# Altium integrated library TI Microcontroller MSP430 16-bit Ultra-Low Power.IntLib: 1463 symbols (part 52 of 130)
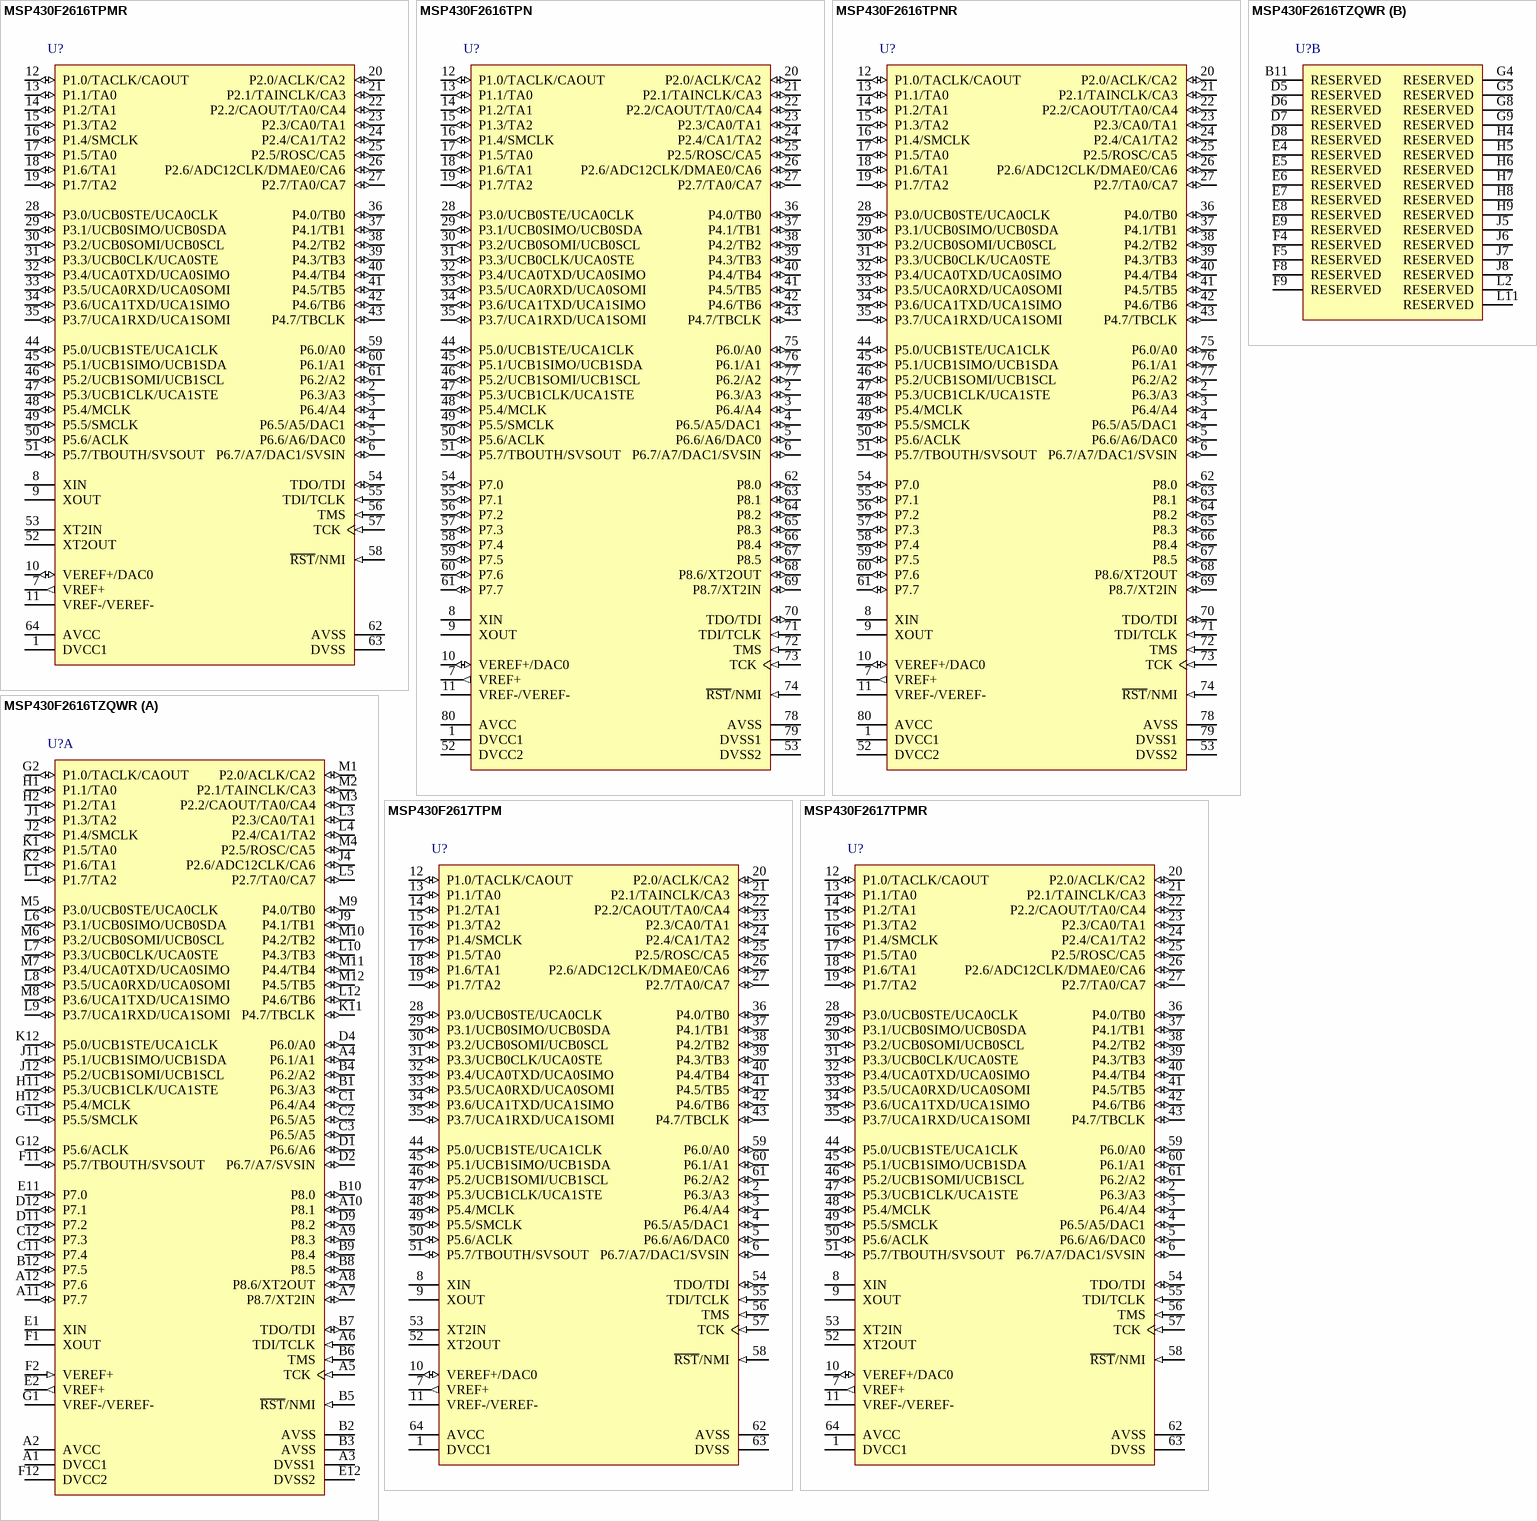
[diagram p362: symbols MSP430F2616TPMR to MSP430F2617TPMR]

## MSP430F2616TZQWR
designator U?
16 MHz Mixed Signal Microcontroller with 92 KB Flash, 4096 B SRAM and 48 GPIOs, -40 to 105 degC, 113-pin BGA (ZQW), Green (RoHS & no Sb/Br); Manufacturer: Texas Instruments; PartNumber: MSP430F2616TZQWR; ADC: 12-bit SAR; ADC Channels: 8; Brown Out Reset: Yes; DMA: 3; Flash(KB): 92; Frequency(MHz): 16; GPIO: 48; Multiplier: 16x16; SRAM(B): 4096; SubFamily: 2 Series, Extended Temp; Timers - 16-bit: 2; DatasheetVersion: SLAS541K; PackageVersion: 4204599-3/D; PackageReference: ZQW113; PackageDescription: 113-Pin Plastic Ball Grid Array Package, Body 7 x 7 mm, Pitch 0.5 mm; Supplier 1: Digi-Key; Supplier Part Number 1: 296-22694-2-ND; Supplier 2: Digi-Key; Supplier Part Number 2: 296-22694-1-ND; Supplier 3: Mouser; Supplier Part Number 3: 595-MSP430F2616TPNR; Comparators: Yes; Eco-Plan: Green (RoHS & no Sb/Br); SVS: Yes; Temp Sensor: Yes; USCI_A (UART/LIN/IrDA/SPI): 2; USCI_B (I2C & SPI): 2; Watchdog: Yes; Mounting Technology: Surface Mount; Code_JEDEC: MO-225; ComponentLink1Description: Manufacturer URL; ComponentLink1URL: http://www.ti.com/; ComponentLink2Description: Datasheet; ComponentLink2URL: http://www.ti.com/general/docs/lit/getliterature.tsp?genericPartNumber=MSP430F2616&fileType=pdf; ComponentLink3Description: Package Specification; ComponentLink3URL: http://www.ti.com/lit/ml/mpbg674/mpbg674.pdf
footprint TI-ZQW113 (BGA, 113-Balls, Body 7x7mm, Pitch 0.5mm)
part A pins: A1 DVCC1 (power) "Digital supply voltage, positive terminal. Supplies all digital parts.", A2 AVCC (power) "Analog supply voltage, positive terminal. Supplies only the analog portion of ADC12 and DAC12.", A3 DVSS1 (power) "Digital supply voltage, negative terminal. Supplies all digital parts.", A4 P6.1/A1 (io), A5 TCK (in) "Test clock (JTAG). TCK is the clock input port for device programming test and bootstrap loader start", A6 TDI/TCLK (in), A7 P8.7/XT2IN (io), A8 P8.6/XT2OUT (io), A9 P8.3 (io) "General-purpose digital I/O pin", A10 P8.1 (io) "General-purpose digital I/O pin", A11 P7.7 (io) "General-purpose digital I/O pin", A12 P7.6 (io) "General-purpose digital I/O pin", B1 P6.3/A3 (io), B2 AVSS (power) "Analog supply voltage, negative terminal. Supplies only the analog portion of ADC12 and DAC12.", B3 AVSS (power) "Analog supply voltage, negative terminal. Supplies only the analog portion of ADC12 and DAC12.", B4 P6.2/A2 (io), B5 ~{RST}/NMI (in), B6 TMS (in) "Test mode select. TMS is used as an input port for device programming and test.", B7 TDO/TDI (io), B8 P8.5 (io) "General-purpose digital I/O pin", B9 P8.4 (io) "General-purpose digital I/O pin", B10 P8.0 (io) "General-purpose digital I/O pin", B12 P7.5 (io) "General-purpose digital I/O pin", C1 P6.4/A4 (io), C2 P6.5/A5 (io), C3 P6.5/A5 (io), C11 P7.4 (io) "General-purpose digital I/O pin", C12 P7.3 (io) "General-purpose digital I/O pin", D1 P6.6/A6 (io), D2 P6.7/A7/SVSIN (io), D4 P6.0/A0 (io), D9 P8.2 (io) "General-purpose digital I/O pin", D11 P7.2 (io) "General-purpose digital I/O pin", D12 P7.1 (io) "General-purpose digital I/O pin", E1 XIN "Input port for crystal oscillator XT1. Standard or watch crystals can be connected.", E2 VREF+ (out) "Output of positive terminal of the reference voltage in the ADC12", E11 P7.0 (io) "General-purpose digital I/O pin", E12 DVSS2 (power) "Digital supply voltage, negative terminal. Supplies all digital parts.", F1 XOUT "Output port for crystal oscillator XT1. Standard or watch crystals can be connected.", F2 VEREF+ (in) "Input for an external reference voltage.", F11 P5.7/TBOUTH/SVSOUT (io), F12 DVCC2 (power) "Digital supply voltage, positive terminal. Supplies all digital parts.", G1 VREF-/VEREF-, G2 P1.0/TACLK/CAOUT (io), G11 P5.5/SMCLK (io), G12 P5.6/ACLK (io), H1 P1.1/TA0 (io), H2 P1.2/TA1 (io), H11 P5.3/UCB1CLK/UCA1STE (io), H12 P5.4/MCLK (io), J1 P1.3/TA2 (io), J2 P1.4/SMCLK (io), J4 P2.6/ADC12CLK/CA6 (io), J9 P4.1/TB1 (io), J11 P5.1/UCB1SIMO/UCB1SDA (io), J12 P5.2/UCB1SOMI/UCB1SCL (io), K1 P1.5/TA0 (io), K2 P1.6/TA1 (io), K11 P4.7/TBCLK (io), K12 P5.0/UCB1STE/UCA1CLK (io), L1 P1.7/TA2 (io), L3 P2.3/CA0/TA1 (io), L4 P2.4/CA1/TA2 (io), L5 P2.7/TA0/CA7 (io), L6 P3.1/UCB0SIMO/UCB0SDA (io), L7 P3.3/UCB0CLK/UCA0STE (io), L8 P3.5/UCA0RXD/UCA0SOMI (io), L9 P3.7/UCA1RXD/UCA1SOMI (io), L10 P4.3/TB3 (io), L12 P4.6/TB6 (io), M1 P2.0/ACLK/CA2 (io), M2 P2.1/TAINCLK/CA3 (io), M3 P2.2/CAOUT/TA0/CA4 (io), M4 P2.5/ROSC/CA5 (io), M5 P3.0/UCB0STE/UCA0CLK (io), M6 P3.2/UCB0SOMI/UCB0SCL (io), M7 P3.4/UCA0TXD/UCA0SIMO (io), M8 P3.6/UCA1TXD/UCA1SIMO (io), M9 P4.0/TB0 (io), M10 P4.2/TB2 (io), M11 P4.4/TB4 (io), M12 P4.5/TB5 (io)
part B pins: B11 RESERVED "Reserved pin. Connection to DVSS, AVSS recommended.", D5 RESERVED "Reserved pin. Connection to DVSS, AVSS recommended.", D6 RESERVED "Reserved pin. Connection to DVSS, AVSS recommended.", D7 RESERVED "Reserved pin. Connection to DVSS, AVSS recommended.", D8 RESERVED "Reserved pin. Connection to DVSS, AVSS recommended.", E4 RESERVED "Reserved pin. Connection to DVSS, AVSS recommended.", E5 RESERVED "Reserved pin. Connection to DVSS, AVSS recommended.", E6 RESERVED "Reserved pin. Connection to DVSS, AVSS recommended.", E7 RESERVED "Reserved pin. Connection to DVSS, AVSS recommended.", E8 RESERVED "Reserved pin. Connection to DVSS, AVSS recommended.", E9 RESERVED "Reserved pin. Connection to DVSS, AVSS recommended.", F4 RESERVED "Reserved pin. Connection to DVSS, AVSS recommended.", F5 RESERVED "Reserved pin. Connection to DVSS, AVSS recommended.", F8 RESERVED "Reserved pin. Connection to DVSS, AVSS recommended.", F9 RESERVED "Reserved pin. Connection to DVSS, AVSS recommended.", G4 RESERVED "Reserved pin. Connection to DVSS, AVSS recommended.", G5 RESERVED "Reserved pin. Connection to DVSS, AVSS recommended.", G8 RESERVED "Reserved pin. Connection to DVSS, AVSS recommended.", G9 RESERVED "Reserved pin. Connection to DVSS, AVSS recommended.", H4 RESERVED "Reserved pin. Connection to DVSS, AVSS recommended.", H5 RESERVED "Reserved pin. Connection to DVSS, AVSS recommended.", H6 RESERVED "Reserved pin. Connection to DVSS, AVSS recommended.", H7 RESERVED "Reserved pin. Connection to DVSS, AVSS recommended.", H8 RESERVED "Reserved pin. Connection to DVSS, AVSS recommended.", H9 RESERVED "Reserved pin. Connection to DVSS, AVSS recommended.", J5 RESERVED "Reserved pin. Connection to DVSS, AVSS recommended.", J6 RESERVED "Reserved pin. Connection to DVSS, AVSS recommended.", J7 RESERVED "Reserved pin. Connection to DVSS, AVSS recommended.", J8 RESERVED "Reserved pin. Connection to DVSS, AVSS recommended.", L2 RESERVED "Reserved pin. Connection to DVSS, AVSS recommended.", L11 RESERVED "Reserved pin. Connection to DVSS, AVSS recommended."

## MSP430F2617TPM
designator U?
16 MHz Mixed Signal Microcontroller with 92 KB Flash, 8192 B SRAM and 48 GPIOs, -40 to 105 degC, 64-pin QFP (PM), Green (RoHS & no Sb/Br); Manufacturer: Texas Instruments; PartNumber: MSP430F2617TPM; ADC: 12-bit SAR; ADC Channels: 8; Brown Out Reset: Yes; DMA: 3; Flash(KB): 92; Frequency(MHz): 16; GPIO: 48; Multiplier: 16x16; SRAM(B): 8192; SubFamily: 2 Series, Extended Temp; Timers - 16-bit: 2; DatasheetVersion: SLAS541K; PackageVersion: 4040152/C; PackageReference: PM64; PackageDescription: 64-Pin Plastic Quad Flat Pack, Body 10 x 10 mm, Pitch 0.5 mm; Supplier 1: Digi-Key; Supplier Part Number 1: 296-24714-2-ND; Supplier 2: Digi-Key; Supplier Part Number 2: 296-24714-1-ND; Supplier 3: Digi-Key; Supplier Part Number 3: 296-24714-6-ND; Supplier 4: Newark; Supplier Part Number 4: 03P4587; Supplier 5: Mouser; Supplier Part Number 5: 595-MSP430F2616TZQWR; Comparators: Yes; Eco-Plan: Green (RoHS & no Sb/Br); SVS: Yes; Temp Sensor: Yes; USCI_A (UART/LIN/IrDA/SPI): 2; USCI_B (I2C & SPI): 2; Watchdog: Yes; Mounting Technology: Surface Mount; Code_JEDEC: MS-026; ComponentLink1Description: Manufacturer URL; ComponentLink1URL: http://www.ti.com/; ComponentLink2Description: Datasheet; ComponentLink2URL: http://www.ti.com/general/docs/lit/getliterature.tsp?genericPartNumber=MSP430F2617&fileType=pdf; ComponentLink3Description: Package Specification; ComponentLink3URL: http://www.ti.com/lit/ml/mtqf008a/mtqf008a.pdf
footprint TI-PM64_N (QFP, 64-Leads, Body 10x10mm, Pitch 0.5mm, IPC Medium Density)
pins: 1 DVCC1 (power) "Digital supply voltage, positive terminal. Supplies all digital parts.", 2 P6.3/A3 (io), 3 P6.4/A4 (io), 4 P6.5/A5/DAC1 (io), 5 P6.6/A6/DAC0 (io), 6 P6.7/A7/DAC1/SVSIN (io), 7 VREF+ (out) "Output of positive terminal of the reference voltage in the ADC12", 8 XIN "Input port for crystal oscillator XT1. Standard or watch crystals can be connected.", 9 XOUT "Output port for crystal oscillator XT1. Standard or watch crystals can be connected.", 10 VEREF+/DAC0 (io) "Input for an external reference voltage", 11 VREF-/VEREF-, 12 P1.0/TACLK/CAOUT (io), 13 P1.1/TA0 (io), 14 P1.2/TA1 (io), 15 P1.3/TA2 (io), 16 P1.4/SMCLK (io), 17 P1.5/TA0 (io), 18 P1.6/TA1 (io), 19 P1.7/TA2 (io), 20 P2.0/ACLK/CA2 (io), 21 P2.1/TAINCLK/CA3 (io), 22 P2.2/CAOUT/TA0/CA4 (io), 23 P2.3/CA0/TA1 (io), 24 P2.4/CA1/TA2 (io), 25 P2.5/ROSC/CA5 (io), 26 P2.6/ADC12CLK/DMAE0/CA6 (io), 27 P2.7/TA0/CA7 (io), 28 P3.0/UCB0STE/UCA0CLK (io), 29 P3.1/UCB0SIMO/UCB0SDA (io), 30 P3.2/UCB0SOMI/UCB0SCL (io), 31 P3.3/UCB0CLK/UCA0STE (io), 32 P3.4/UCA0TXD/UCA0SIMO (io), 33 P3.5/UCA0RXD/UCA0SOMI (io), 34 P3.6/UCA1TXD/UCA1SIMO (io), 35 P3.7/UCA1RXD/UCA1SOMI (io), 36 P4.0/TB0 (io), 37 P4.1/TB1 (io), 38 P4.2/TB2 (io), 39 P4.3/TB3 (io), 40 P4.4/TB4 (io), 41 P4.5/TB5 (io), 42 P4.6/TB6 (io), 43 P4.7/TBCLK (io), 44 P5.0/UCB1STE/UCA1CLK (io), 45 P5.1/UCB1SIMO/UCB1SDA (io), 46 P5.2/UCB1SOMI/UCB1SCL (io), 47 P5.3/UCB1CLK/UCA1STE (io), 48 P5.4/MCLK (io), 49 P5.5/SMCLK (io), 50 P5.6/ACLK (io), 51 P5.7/TBOUTH/SVSOUT (io), 52 XT2OUT "Output terminal of crystal oscillator XT2", 53 XT2IN "Input port for crystal oscillator XT2", 54 TDO/TDI (io), 55 TDI/TCLK (in), 56 TMS (in) "Test mode select. TMS is used as an input port for device programming and test.", 57 TCK (in) "Test clock (JTAG). TCK is the clock input port for device programming test and bootstrap loader start", 58 ~{RST}/NMI (in), 59 P6.0/A0 (io), 60 P6.1/A1 (io), 61 P6.2/A2 (io), 62 AVSS (power) "Analog supply voltage, negative terminal. Supplies only the analog portion of ADC12 and DAC12.", 63 DVSS (power) "Digital supply voltage, negative terminal. Supplies all digital parts.", 64 AVCC (power) "Analog supply voltage, positive terminal. Supplies only the analog portion of ADC12 and DAC12."

## MSP430F2617TPMR
designator U?
16 MHz Mixed Signal Microcontroller with 92 KB Flash, 8192 B SRAM and 48 GPIOs, -40 to 105 degC, 64-pin QFP (PM), Green (RoHS & no Sb/Br); Manufacturer: Texas Instruments; PartNumber: MSP430F2617TPMR; ADC: 12-bit SAR; ADC Channels: 8; Brown Out Reset: Yes; DMA: 3; Flash(KB): 92; Frequency(MHz): 16; GPIO: 48; Multiplier: 16x16; SRAM(B): 8192; SubFamily: 2 Series, Extended Temp; Timers - 16-bit: 2; DatasheetVersion: SLAS541K; PackageVersion: 4040152/C; PackageReference: PM64; PackageDescription: 64-Pin Plastic Quad Flat Pack, Body 10 x 10 mm, Pitch 0.5 mm; Supplier 1: Digi-Key; Supplier Part Number 1: 296-26222-ND; Supplier 2: Farnell; Supplier Part Number 2: 1649453; Supplier 3: Newark; Supplier Part Number 3: 61M7904; Supplier 4: Mouser; Supplier Part Number 4: 595-MSP430F2617TPM; Comparators: Yes; Eco-Plan: Green (RoHS & no Sb/Br); SVS: Yes; Temp Sensor: Yes; USCI_A (UART/LIN/IrDA/SPI): 2; USCI_B (I2C & SPI): 2; Watchdog: Yes; Mounting Technology: Surface Mount; Code_JEDEC: MS-026; ComponentLink1Description: Manufacturer URL; ComponentLink1URL: http://www.ti.com/; ComponentLink2Description: Datasheet; ComponentLink2URL: http://www.ti.com/general/docs/lit/getliterature.tsp?genericPartNumber=MSP430F2617&fileType=pdf; ComponentLink3Description: Package Specification; ComponentLink3URL: http://www.ti.com/lit/ml/mtqf008a/mtqf008a.pdf
footprint TI-PM64_N (QFP, 64-Leads, Body 10x10mm, Pitch 0.5mm, IPC Medium Density)
pins: 1 DVCC1 (power) "Digital supply voltage, positive terminal. Supplies all digital parts.", 2 P6.3/A3 (io), 3 P6.4/A4 (io), 4 P6.5/A5/DAC1 (io), 5 P6.6/A6/DAC0 (io), 6 P6.7/A7/DAC1/SVSIN (io), 7 VREF+ (out) "Output of positive terminal of the reference voltage in the ADC12", 8 XIN "Input port for crystal oscillator XT1. Standard or watch crystals can be connected.", 9 XOUT "Output port for crystal oscillator XT1. Standard or watch crystals can be connected.", 10 VEREF+/DAC0 (io) "Input for an external reference voltage", 11 VREF-/VEREF-, 12 P1.0/TACLK/CAOUT (io), 13 P1.1/TA0 (io), 14 P1.2/TA1 (io), 15 P1.3/TA2 (io), 16 P1.4/SMCLK (io), 17 P1.5/TA0 (io), 18 P1.6/TA1 (io), 19 P1.7/TA2 (io), 20 P2.0/ACLK/CA2 (io), 21 P2.1/TAINCLK/CA3 (io), 22 P2.2/CAOUT/TA0/CA4 (io), 23 P2.3/CA0/TA1 (io), 24 P2.4/CA1/TA2 (io), 25 P2.5/ROSC/CA5 (io), 26 P2.6/ADC12CLK/DMAE0/CA6 (io), 27 P2.7/TA0/CA7 (io), 28 P3.0/UCB0STE/UCA0CLK (io), 29 P3.1/UCB0SIMO/UCB0SDA (io), 30 P3.2/UCB0SOMI/UCB0SCL (io), 31 P3.3/UCB0CLK/UCA0STE (io), 32 P3.4/UCA0TXD/UCA0SIMO (io), 33 P3.5/UCA0RXD/UCA0SOMI (io), 34 P3.6/UCA1TXD/UCA1SIMO (io), 35 P3.7/UCA1RXD/UCA1SOMI (io), 36 P4.0/TB0 (io), 37 P4.1/TB1 (io), 38 P4.2/TB2 (io), 39 P4.3/TB3 (io), 40 P4.4/TB4 (io), 41 P4.5/TB5 (io), 42 P4.6/TB6 (io), 43 P4.7/TBCLK (io), 44 P5.0/UCB1STE/UCA1CLK (io), 45 P5.1/UCB1SIMO/UCB1SDA (io), 46 P5.2/UCB1SOMI/UCB1SCL (io), 47 P5.3/UCB1CLK/UCA1STE (io), 48 P5.4/MCLK (io), 49 P5.5/SMCLK (io), 50 P5.6/ACLK (io), 51 P5.7/TBOUTH/SVSOUT (io), 52 XT2OUT "Output terminal of crystal oscillator XT2", 53 XT2IN "Input port for crystal oscillator XT2", 54 TDO/TDI (io), 55 TDI/TCLK (in), 56 TMS (in) "Test mode select. TMS is used as an input port for device programming and test.", 57 TCK (in) "Test clock (JTAG). TCK is the clock input port for device programming test and bootstrap loader start", 58 ~{RST}/NMI (in), 59 P6.0/A0 (io), 60 P6.1/A1 (io), 61 P6.2/A2 (io), 62 AVSS (power) "Analog supply voltage, negative terminal. Supplies only the analog portion of ADC12 and DAC12.", 63 DVSS (power) "Digital supply voltage, negative terminal. Supplies all digital parts.", 64 AVCC (power) "Analog supply voltage, positive terminal. Supplies only the analog portion of ADC12 and DAC12."

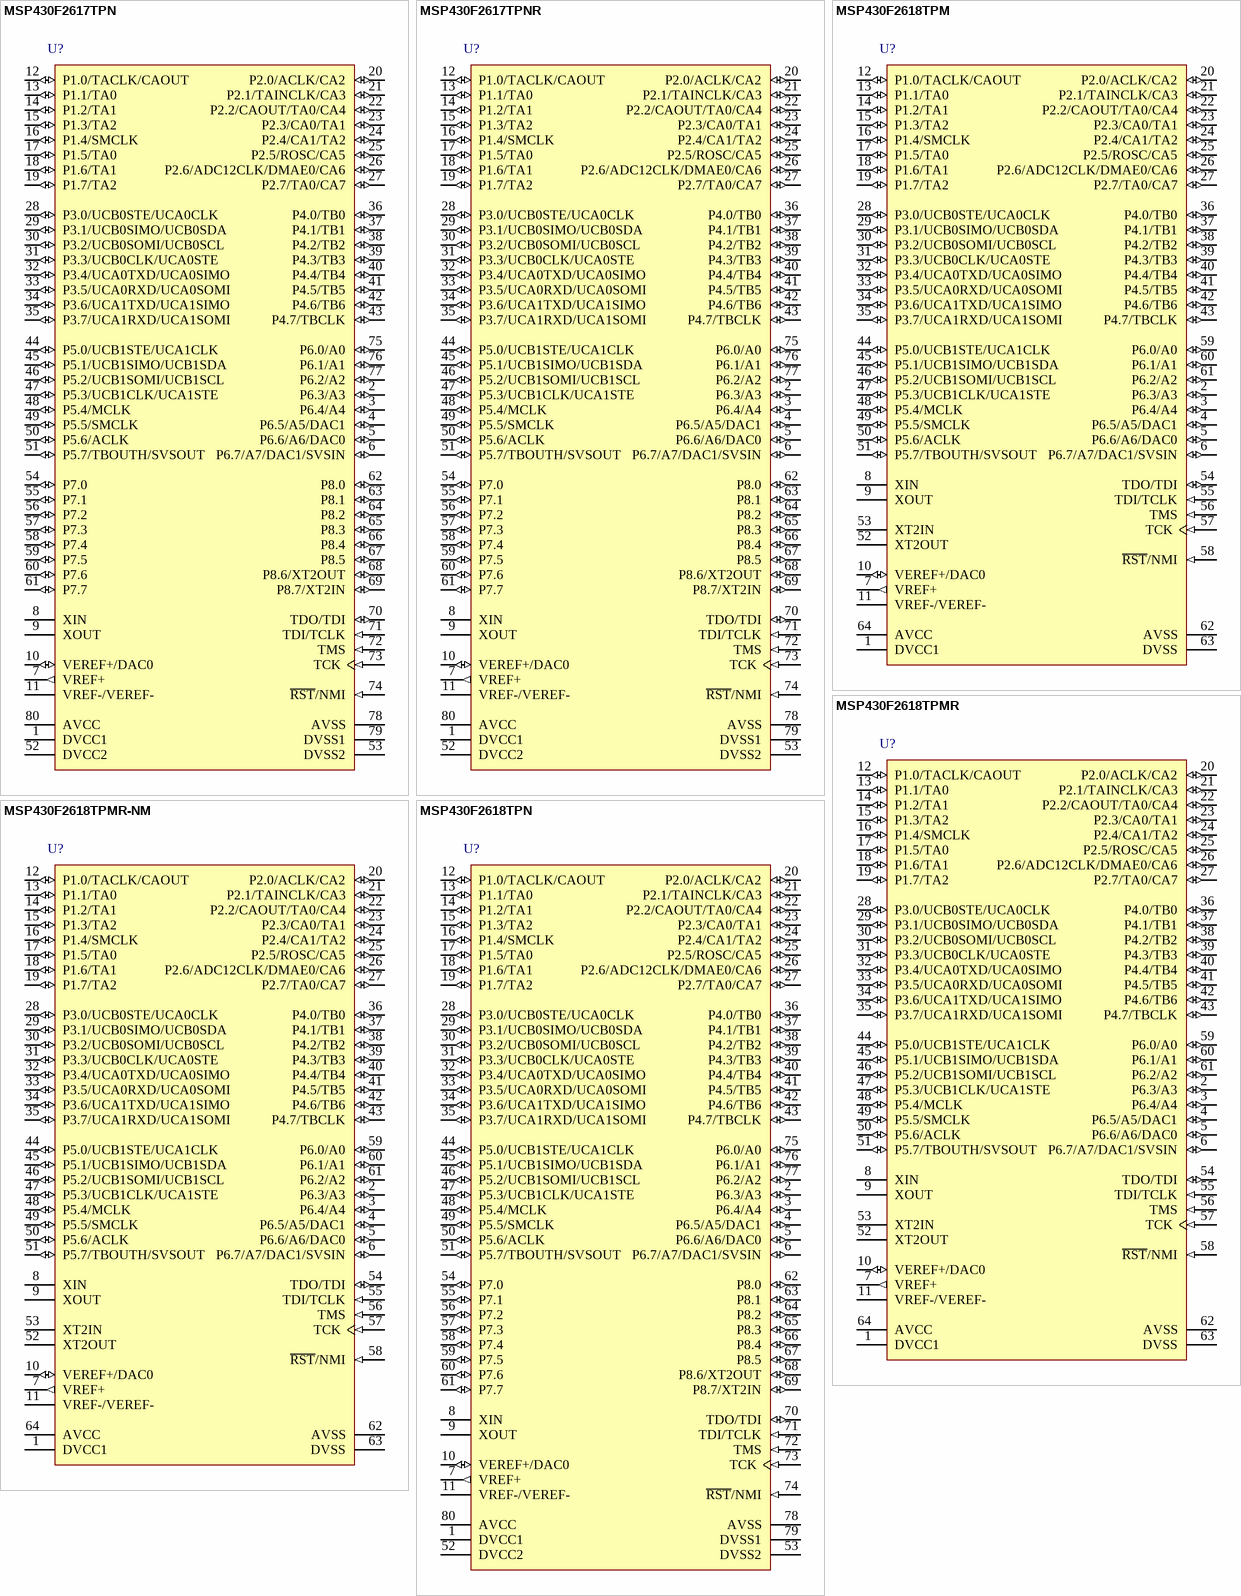
[diagram p75: symbols MSP430F2617TPN to MSP430F2618TPN]